# EAGLE library part LP-6VA (library trafo-signal)
TRANSFORMER
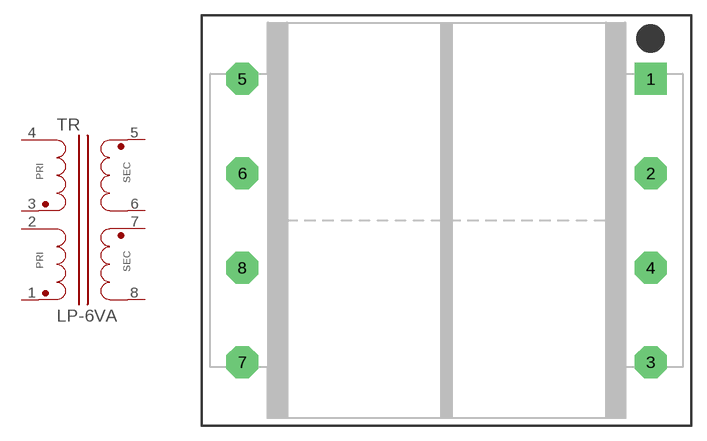
[diagram p2: symbol with the pads of LP-6VA; footprint LP-6VA]

Designator prefix TR

## LP-6VA  [LP-6VA]
1  1  pas
2  2  pas
3  3  pas
4  4  pas
5  5  pas
6  6  pas
7  7  pas
8  8  pas

## Footprint LP-6VA (pad centres in mm)
PC Series - 6VA
drill 1.422 pad 3.175 square: 1 20.32,14.097
drill 1.422 pad 3.175 octagon: 2 20.32,4.699; 3 20.32,-14.097; 4 20.32,-4.699; 5 -20.32,14.097; 6 -20.32,4.699; 7 -20.32,-14.097; 8 -20.32,-4.699